# Altium integrated library Capacitors.IntLib: 5 symbols
Pins are listed as number, name and electrical type; pins without a type are passive.

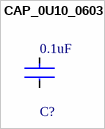
[diagram p0: symbol CAP_0U10_0603]

## CAP_0U10_0603
designator C?, comment 0.1uF
CAP CER 0.1UF 50V X7R 0603; Manufacturer: YAGEO; Manufacturer Part Number: CC0603KRX7R9BB104; Material: Ceramic; Capacitance: 100 nF; Temperature Coefficient: 15%; Tolerance: 0.1; Value: 100 nF; Height: 0.9mm; Voltage: 50 V; ComponentLink2Description: Datasheet; Device Class L2: Capacitors; Temperature Range High: +125°C; Category: Cap; Footprint Url: http://www.yageo.com/exep/pages/download/literatures/UPY-C_GEN_24.pdf; ComponentLink2URL: http://www.yageo.com/documents/recent/UPY-GPHC_X7R_6.3V-to-50V_18.pdf; Package: CC0603-DA; Temperature: -55°C to +125°C; Voltage Rating: 50 V; Temperature Characteristic: X7R; Device Class L1: Passive Components; Temperature Range Low: -55°C; RoHS: TRUE; Automotive: No; Device Class L3: Ceramic Capacitors; Octopart: https://octopart.com/cc0603krx7r9bb104-yageo-42244635; Mouser Description: Multilayer Ceramic Capacitor, CC Series, 0.1 - F, - 10%, X7R, 50 V, 0603 [1608 Metric]; Lead Free: Yes; Digikey Description: CAP CER 0.1UF 50V X7R 0603
footprint FP-CC0603-DA-IPC_B
footprint FP-CC0603-DA-IPC_A
footprint FP-CC0603-DA-IPC_C
footprint FP-CC0603-DA-MFG
pins: 1, 2


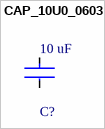
[diagram p1: symbol CAP_10U0_0603]

## CAP_10U0_0603
designator C?, comment 10 uF
Chip Multilayer Ceramic Capacitors for General Purpose, 0603, 10uF, X7R, 15%, 10%, 10V
footprint FP-GRM188-0_2-IPC_C
footprint FP-GRM188-0_2-IPC_B
footprint FP-GRM188-0_2-MFG
footprint FP-GRM188-0_2-IPC_A
pins: 1, 2


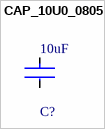
[diagram p2: symbol CAP_10U0_0805]

## CAP_10U0_0805
designator C?, comment 10uF
CAP CER 10UF 10V X7R 0805; Tolerance: 10%; Dielectric: X7R; Series: CC; Min Operating Temperature: -55°C; Mount: Surface Mount; Radiation Hardening: No; Length: 2mm; Case/Package: 0805; Width: 0.049inch; Lead Free: Lead Free; Max Operating Temperature: 125°C; Thickness: 0.057inch; Capacitance: 10uF; Construction: Flat; Resistor Type: Ceramic; Height: 1.6mm; Halogen Free: Halogen Free; RoHS Compliant: Yes; Voltage Rating (DC): 10V; Case Code (Metric): 2012; Case Code (Imperial): 0805; Depth: 1.25mm; Voltage Rating: 10V; Packaging: Tape and Reel
footprint FP-CC0805-EB-MFG
footprint FP-CC0805-EB-IPC_A
footprint FP-CC0805-EB-IPC_C
footprint FP-CC0805-EB-IPC_B
pins: 1, 2


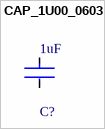
[diagram p3: symbol CAP_1U00_0603]

## CAP_1U00_0603
designator C?, comment 1uF
CAP CER 1UF 16V X7R 0603; Manufacturer: YAGEO; Manufacturer Part Number: CC0603KRX7R7BB105; Tolerance: 0.1; Temperature Coefficient: 15%; Material: Ceramic; Package: CC0603-DA; RoHS: TRUE; Device Class L2: Capacitors; Temperature Characteristic: X7R; Temperature: -55°C to +125°C; Temperature Range Low: -55°C; Automotive: No; ComponentLink2Description: Datasheet; Value: 1 uF; Lead Free: Yes; Capacitance: 1 uF; ComponentLink2URL: http://www.yageo.com/documents/recent/UPY-GPHC_X7R_6.3V-to-50V_18.pdf; Device Class L1: Passive Components; Voltage: 16 V; Octopart: https://octopart.com/cc0603krx7r7bb105-yageo-42271928; Category: Cap; Digikey Description: CAP CER 1UF 16V X7R 0603; Footprint Url: http://www.yageo.com/exep/pages/download/literatures/UPY-C_GEN_24.pdf; Height: 0.9mm; Voltage Rating: 16 V; Temperature Range High: +125°C; Mouser Description: Multilayer Ceramic Capacitor, CC Series, 1 - F, - 10%, X7R, 16 V, 0603 [1608 Metric]; Device Class L3: Ceramic Capacitors
footprint FP-CC0603-DA-IPC_B
footprint FP-CC0603-DA-IPC_A
footprint FP-CC0603-DA-IPC_C
footprint FP-CC0603-DA-MFG
pins: 1, 2


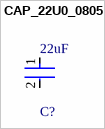
[diagram p4: symbol CAP_22U0_0805]

## CAP_22U0_0805
designator C?, comment 22uF
Chip Multilayer Ceramic Capacitors for General Purpose, 0805, 22uF, X6S, 22%, 20%, 16V; Packaging: Tape and Reel; Dielectric: X6S; Case Code (Imperial): 0805; Weight: 0.000335oz; Case Code (Metric): 2012; Thickness: 0.057inch; Min Operating Temperature: -55°C; Voltage Rating (DC): 16V; Tolerance: 20%; Width: 1.25mm; Voltage Rating: 16V; Mount: Surface Mount; Capacitance: 22uF; Length: 0.079inch; Lead Free: Lead Free; Case/Package: 0805; Package Quantity: 3000; Height: 1.25mm; Max Operating Temperature: 105°C; Termination: SMD/SMT
footprint FP-GRM21B-0_2-e0_2_0_7-IPC_A
footprint FP-GRM21B-0_2-e0_2_0_7-MFG
footprint FP-GRM21B-0_2-e0_2_0_7-IPC_C
footprint FP-GRM21B-0_2-e0_2_0_7-IPC_B
pins: 1, 2